# Altium footprint library MOC207M.PcbLib: 1 footprints
Each footprint in its own frame and in the unit in brackets; x right, y up, seen from the top. Pads: shape width x height; smd on the part's side, far side on the other; paste and mask are expansions set on the pad; w line width, h text height; cw(c..) or ccw(c..) is an arc to the next point about the centre after c.
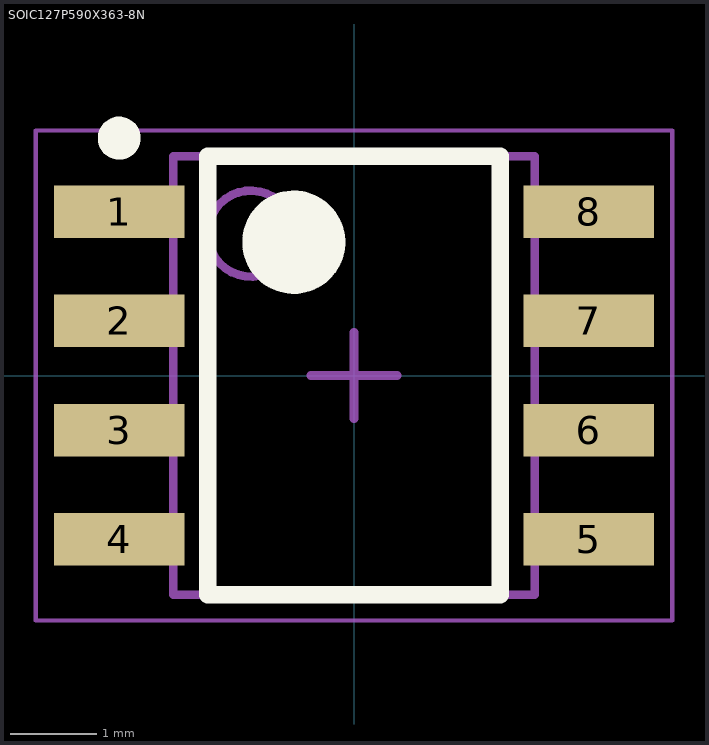
[diagram p0: the footprint, top view; thin cyan lines are the x and y axes]

## SOIC127P590X363-8N [mm] "SOIC, 8-Leads, Body 4.88x3.91mm, Pitch 1.27mm, IPC Medium Density"
height 3.63
pads (8):
  rect 1.52x0.61 smd: 1(-2.73,1.905) 2(-2.73,0.635) 3(-2.73,-0.635) 4(-2.73,-1.905) 5(2.73,-1.905) 6(2.73,-0.635) 7(2.73,0.635) 8(2.73,1.905)
Top Overlay:
  circle w0.6: c-0.7,1.55 r0.3
  circle w0.25: c-2.73,2.76 r0.125
  lines w0.2: -1.7,-2.55 1.7,-2.55 1.7,2.55 -1.7,2.55 -1.7,-2.55
Mechanical 13:
  circle w0.1: c-1.2,1.65 r0.5
  lines w0.1: -2.1,-2.55 2.1,-2.55 2.1,2.55 -2.1,2.55 -2.1,-2.55
Mechanical 15:
  lines w0.05: -3.7,-2.85 3.7,-2.85 3.7,2.85 -3.7,2.85 -3.7,-2.85
  lines w0.1: -0.5,0 0.5,0 ; 0,-0.5 0,0.5
3D body "SOIC127P590X363-8N.step": height 3.63, standoff 0, extent -2.97,-2.55 2.97,2.55